# Altium schematic symbol library FT2232D.SchLib: 1 symbol
Pins are listed as number, name and electrical type; pins without a type are passive.

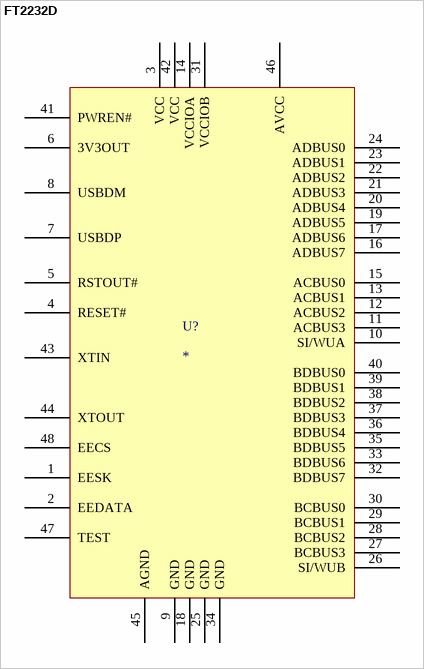
[diagram p0: symbol FT2232D]

## FT2232D
designator U?
FT2232D Dual USB UART / FIFO IC; Manufacturer: FTDI; Vendor: Mouser; Part No.: FT2232D; Price Est.: $6.99
footprint LQFP-48 (LQFP 48pin 0.5mm pitch 7x7mm body 9x9mm based on FTDI FT2232D)
pins: 1 EESK, 2 EEDATA, 3 VCC, 4 RESET#, 5 RSTOUT#, 6 3V3OUT, 7 USBDP, 8 USBDM, 9 GND, 10 SI/WUA, 11 ACBUS3, 12 ACBUS2, 13 ACBUS1, 14 VCCIOA, 15 ACBUS0, 16 ADBUS7, 17 ADBUS6, 18 GND, 19 ADBUS5, 20 ADBUS4, 21 ADBUS3, 22 ADBUS2, 23 ADBUS1, 24 ADBUS0, 25 GND, 26 SI/WUB, 27 BCBUS3, 28 BCBUS2, 29 BCBUS1, 30 BCBUS0, 31 VCCIOB, 32 BDBUS7, 33 BDBUS6, 34 GND, 35 BDBUS5, 36 BDBUS4, 37 BDBUS3, 38 BDBUS2, 39 BDBUS1, 40 BDBUS0, 41 PWREN#, 42 VCC, 43 XTIN, 44 XTOUT, 45 AGND, 46 AVCC, 47 TEST, 48 EECS